# Altium schematic symbol library Regulators.SchLib: 4 symbols
Pins are listed as number, name and electrical type; pins without a type are passive.

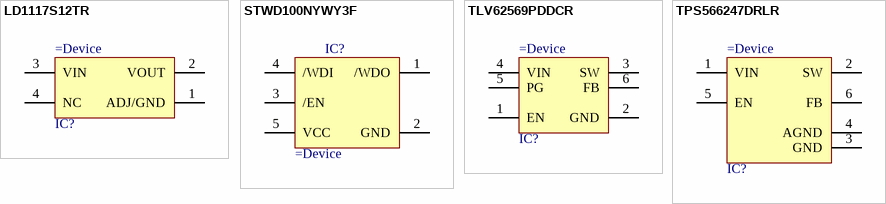
[diagram p0: symbols LD1117S12TR to TPS566247DRLR]

## LD1117S12TR
designator IC?
Adjustable and fixed low drop positive voltage regulator
pins: 1 ADJ/GND, 2 VOUT, 3 VIN, 4 NC

## STWD100NYWY3F
designator IC?
Watchdog timer circuit; partnumber: STWD1000; manufacturer: ST; PURCHASE: http://www.mouser.cn/ProductDetail/STMicroelectronics/STWD100NYWY3F/?qs=sGAEpiMZZMsFq5dYAzx%252bAJleutHXZkr%2fNbq4hDkZfUQ%3d; DATASHEET: http://www.st.com/st-web-ui/static/active/en/resource/technical/document/datasheet/CD00176077.pdf; PackageDescription: SOT23-5 MODIFY
pins: 1 /WDO, 2 GND, 3 /EN, 4 /WDI, 5 VCC

## TLV62569PDDCR
designator IC?
High Efficiency Synchronous Buck Converter; Manufacturer_Name: Texas Instruments; Manufacturer_Part_Number: TLV62569PDDCR; Datasheet Link: http://www.ti.com/lit/gpn/TLV62569; Height: 1.1mm; Mouser Part Number: 595-TLV62569PDDCR; Mouser Price/Stock: https://www.mouser.co.uk/ProductDetail/Texas-Instruments/TLV62569PDDCR?qs=EU6FO9ffTwfZrYnjH%252B%2FcBg%3D%3D; Arrow Part Number: TLV62569PDDCR; Arrow Price/Stock: https://www.arrow.com/en/products/tlv62569pddcr/texas-instruments?region=nac
pins: 1 EN, 2 GND, 3 SW, 4 VIN, 5 PG, 6 FB

## TPS566247DRLR
designator IC?
3V to 16-V Input Voltage, 6A Synchronous Buck Converter; Manufacturer_Name: Texas Instruments; Height: 1.1mm
pins: 1 VIN, 2 SW, 3 GND, 4 AGND, 5 EN, 6 FB